# Altium integrated library Silicon Labs Energy Micro EFM32.IntLib: 240 symbols (part 23 of 34)
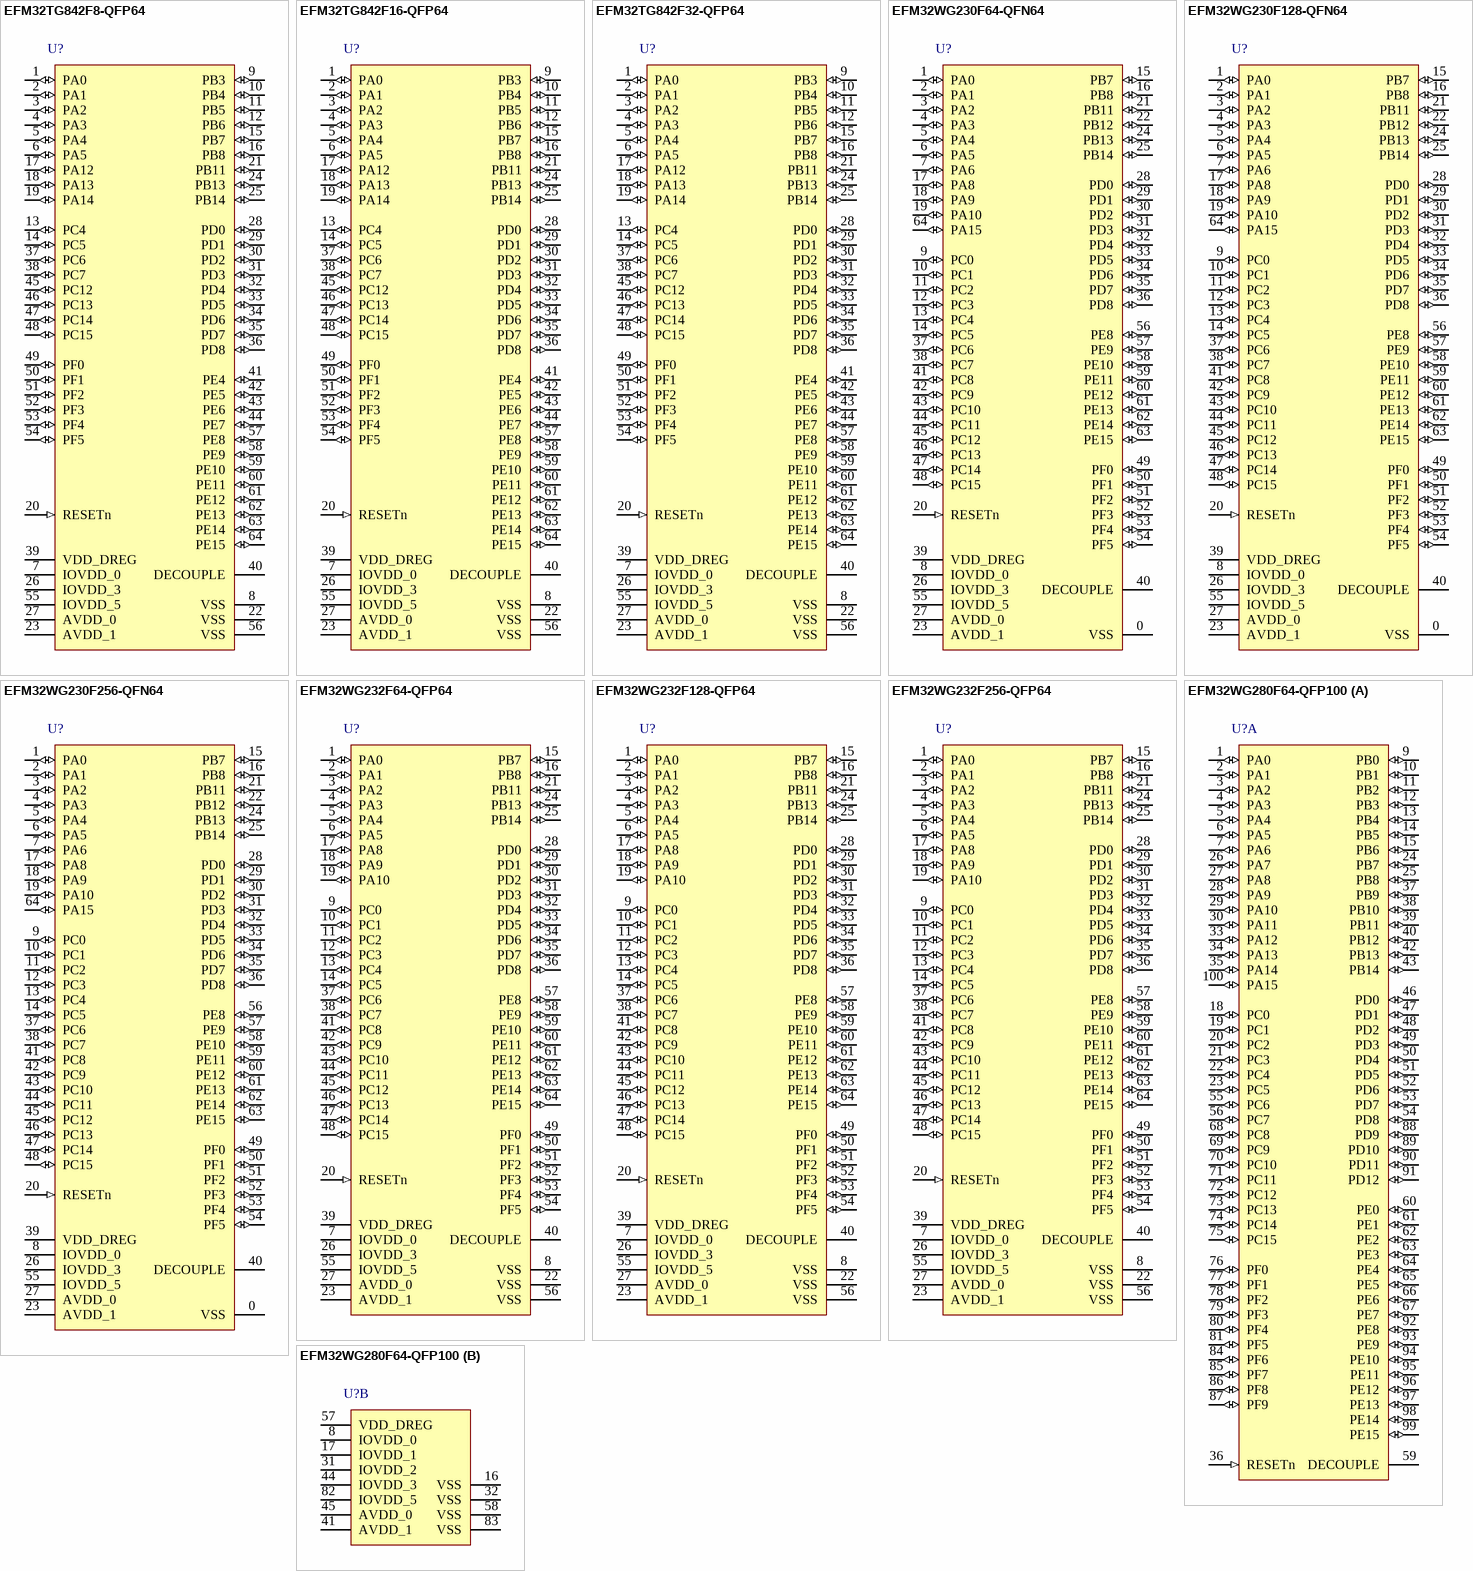
[diagram p60: symbols EFM32TG842F8-QFP64 to EFM32WG280F64-QFP100]

## EFM32TG842F8-QFP64
designator U?
EFM32 Tiny Gecko, M3 ARM Cortex CPU, 8 KB Flash, 2 KB RAM, 1.85 - 3.8 V Supply, 32 MHz Max Speed, -40 to 85 degC, 64-Pin TQFP, RoHS Compliant; Generic Part Number: EFM32TG842; PartNumber: EFM32TG842F8-QFP64; ADC: Y; Flash (KB): 8; GPIO: 53; LCD: 8x18; Max Speed (MHz): 32; OPAMPS: 3; RAM (KB): 2; DatasheetVersion: Rev 1.00; PackageVersion: Rev. 98SPP64023A_XO1_17MAR2011; PackageReference: TQFP64; PackageDescription: 64-Pin Quad Flat Package, Body 10 x 10 mm, Pitch 0.5 mm; Supplier 1: Digi-Key; Supplier Part Number 1: EFM32TG842F8-ND; Supplier 2: Mouser; Supplier Part Number 2: 904-EFM32TG842F8; AES: Y; ARM Cortex CPU: M3; LESENSE: Y; Subcategory: EFM32 Tiny Gecko; Supply Voltage (V): 1.85 - 3.8; Mounting Technology: Surface Mount; ComponentLink1Description: Manufacturer URL; ComponentLink1URL: http://www.energymicro.com/; ComponentLink2Description: Datasheet; ComponentLink2URL: http://cdn.energymicro.com/dl/devices/pdf/d0072_efm32tg842_datasheet.pdf; ComponentLink3Description: Package Specification; ComponentLink3URL: http://cdn.energymicro.com/dl/devices/pdf/d0070_efm32g842_datasheet.pdf
footprint ENMR-TQFP64_N (QFP, 64-Leads, Body 10x10mm, Pitch 0.5mm, IPC Medium Density)
footprint ENMR-TQFP64_L (QFP, 64-Leads, Body 10x10mm, Pitch 0.5mm, IPC High Density)
footprint ENMR-TQFP64_M (QFP, 64-Leads, Body 10x10mm, Pitch 0.5mm, IPC Low Density)
pins: 1 PA0 (io) "LCD_SEG13, TIM0_CC0#0/1/4, LEU0_RX#4, I2C0_SDA#0, PRS_CH0#0, GPIO_EM4WU0", 2 PA1 (io) "LCD_SEG14, TIM0_CC1#0/1, I2C0_SCL#0, CMU_CLK1#0, PRS_CH1#0", 3 PA2 (io) "LCD_SEG15, TIM0_CC2#0/1, CMU_CLK0#0", 4 PA3 (io) "LCD_SEG16, LES_ALTEX2#0", 5 PA4 (io) "LCD_SEG17, LES_ALTEX3#0", 6 PA5 (io) "LCD_SEG18, LES_ALTEX4#0", 7 IOVDD_0 (power) "Digital IO power supply 0.", 8 VSS (power) "Ground", 9 PB3 (io) "LCD_SEG20/LCD_COM4", 10 PB4 (io) "LCD_SEG21/LCD_COM5", 11 PB5 (io) "LCD_SEG22/LCD_COM6", 12 PB6 (io) "LCD_SEG23/LCD_COM7", 13 PC4 (io) "DAC0_P0#0/OPAMP_P0, ACMP0_CH4, LETIM0_OUT0#3, LES_CH4#0", 14 PC5 (io) "DAC0_N0#0/OPAMP_N0, ACMP0_CH5, LETIM0_OUT1#3, LES_CH5#0", 15 PB7 (io) "LFXTAL_P, TIM1_CC0#3, US0_TX#4, US1_CLK#0", 16 PB8 (io) "LFXTAL_N, TIM1_CC1#3, US0_RX#4, US1_CS#0", 17 PA12 (io) "LCD_BCAP_P", 18 PA13 (io) "LCD_BCAP_N", 19 PA14 (io) "LCD_BEXT", 20 RESETn (in) "Reset input. Active low, with internal pull-up.", 21 PB11 (io) "DAC0_OUT0#0/OPAMP_OUT0, TIM1_CC2#3, LETIM0_OUT0#1", 22 VSS (power) "Ground", 23 AVDD_1 (power) "Analog power supply 1 .", 24 PB13 (io) "HFXTAL_P, US0_CLK#4/5, LEU0_TX#1", 25 PB14 (io) "HFXTAL_N, US0_CS#4/5, LEU0_RX#1", 26 IOVDD_3 (power) "Digital IO power supply 3.", 27 AVDD_0 (power) "Analog power supply 0.", 28 PD0 (io) "ADC0_CH0, DAC0_OUT0ALT#4/OPAMP_OUT0ALT, DAC0_OUT2#1/OPAMP_OUT2, US1_TX#1", 29 PD1 (io) "ADC0_CH1, DAC0_OUT1ALT#4/OPAMP_OUT1ALT, TIM0_CC0#3, US1_RX#1", 30 PD2 (io) "ADC0_CH2, TIM0_CC1#3, US1_CLK#1", 31 PD3 (io) "ADC0_CH3, DAC0_N2#0/TIM0_CC2#3, US1_CS#1, OPAMP_N2", 32 PD4 (io) "ADC0_CH4, DAC0_P2#0/OPAMP_P2, LEU0_TX#0", 33 PD5 (io) "ADC0_CH5, DAC0_OUT2#0/OPAMP_OUT2, LEU0_RX#0", 34 PD6 (io) "ADC0_CH6, DAC0_P1#0/OPAMP_P1, TIM1_CC0#4, LETIM0_OUT0#0, PCNT0_S0IN#3, US1_RX#2, I2C0_SDA#1, LES_ALTEX0#0, ACMP0_O#2", 35 PD7 (io) "ADC0_CH7, DAC0_N1#0/OPAMP_N1, TIM1_CC1#4, LETIM0_OUT1#0, PCNT0_S1IN#3, US1_TX#2, I2C0_SCL#1, CMU_CLK0#2, LES_ALTEX1#0, ACMP1_O#2", 36 PD8 (io) "CMU_CLK1#1", 37 PC6 (io) "ACMP0_CH6, I2C0_SDA#2, LES_CH6#0", 38 PC7 (io) "ACMP0_CH7, I2C0_SCL#2, LES_CH7#0", 39 VDD_DREG (power) "Power supply for on-chip voltage regulator.", 40 DECOUPLE "Decouple output for on-chip voltage regulator, nominally at 1.8 V. An external capacitance of size CDECOUPLE is required at this pin.", 41 PE4 (io) "LCD_COM0, US0_CS#1", 42 PE5 (io) "LCD_COM1, US0_CLK#1", 43 PE6 (io) "LCD_COM2, US0_RX#1", 44 PE7 (io) "LCD_COM3, US0_TX#1", 45 PC12 (io) "DAC0_OUT1ALT#0/OPAMP_OUT1ALT, ACMP1_CH4, CMU_CLK0#1, LES_CH12#0", 46 PC13 (io) "DAC0_OUT1ALT#1/OPAMP_OUT1ALT, ACMP1_CH5, TIM1_CC0#0, TIM1_CC2#4, PCNT0_S0IN#0, LES_CH13#0", 47 PC14 (io) "DAC0_OUT1ALT#2/OPAMP_OUT1ALT, ACMP1_CH6, TIM1_CC1#0, PCNT0_S1IN#0, US0_CS#3, LES_CH14#0", 48 PC15 (io) "DAC0_OUT1ALT#3/OPAMP_OUT1ALT, ACMP1_CH7, TIM1_CC2#0, US0_CLK#3, LES_CH15#0, DBG_SWO#1", 49 PF0 (io) "TIM0_CC0#5, LETIM0_OUT0#2, US1_CLK#2, LEU0_TX#3, I2C0_SDA#5, DBG_SWCLK#0/1", 50 PF1 (io) "TIM0_CC1#5, LETIM0_OUT1#2, US1_CS#2, LEU0_RX#3, I2C0_SCL#5, DBG_SWDIO#0/1, GPIO_EM4WU3", 51 PF2 (io) "LCD_SEG0, TIM0_CC2#5, LEU0_TX#4, ACMP1_O#0, DBG_SWO#0, GPIO_EM4WU4", 52 PF3 (io) "LCD_SEG1, PRS_CH0#1", 53 PF4 (io) "LCD_SEG2, PRS_CH1#1", 54 PF5 (io) "LCD_SEG3, PRS_CH2#1", 55 IOVDD_5 (power) "Digital IO power supply 5.", 56 VSS (power) "Ground", 57 PE8 (io) "LCD_SEG4, PRS_CH3#1", 58 PE9 (io) "LCD_SEG5", 59 PE10 (io) "LCD_SEG6, TIM1_CC0#1, US0_TX#0", 60 PE11 (io) "LCD_SEG7, TIM1_CC1#1, US0_RX#0, LES_ALTEX5#0", 61 PE12 (io) "LCD_SEG8, TIM1_CC2#1, US0_RX#3, US0_CLK#0, I2C0_SDA#6, CMU_CLK1#2, LES_ALTEX6#0", 62 PE13 (io) "LCD_SEG9, US0_TX#3, US0_CS#0, I2C0_SCL#6, LES_ALTEX7#0, ACMP0_O#0, GPIO_EM4WU5", 63 PE14 (io) "LCD_SEG10, LEU0_TX#2", 64 PE15 (io) "LCD_SEG11, LEU0_RX#2"

## EFM32TG842F16-QFP64
designator U?
EFM32 Tiny Gecko, M3 ARM Cortex CPU, 16 KB Flash, 4 KB RAM, 1.85 - 3.8 V Supply, 32 MHz Max Speed, -40 to 85 degC, 64-Pin TQFP, RoHS Compliant; Generic Part Number: EFM32TG842; PartNumber: EFM32TG842F16-QFP64; ADC: Y; Flash (KB): 16; GPIO: 53; LCD: 8x18; Max Speed (MHz): 32; OPAMPS: 3; RAM (KB): 4; DatasheetVersion: Rev 1.00; PackageVersion: Rev. 98SPP64023A_XO1_17MAR2011; PackageReference: TQFP64; PackageDescription: 64-Pin Quad Flat Package, Body 10 x 10 mm, Pitch 0.5 mm; Supplier 1: Digi-Key; Supplier Part Number 1: EFM32TG842F16-ND; Supplier 2: Mouser; Supplier Part Number 2: 904-EFM32TG842F16; AES: Y; ARM Cortex CPU: M3; LESENSE: Y; Subcategory: EFM32 Tiny Gecko; Supply Voltage (V): 1.85 - 3.8; Mounting Technology: Surface Mount; ComponentLink1Description: Manufacturer URL; ComponentLink1URL: http://www.energymicro.com/; ComponentLink2Description: Datasheet; ComponentLink2URL: http://cdn.energymicro.com/dl/devices/pdf/d0072_efm32tg842_datasheet.pdf; ComponentLink3Description: Package Specification; ComponentLink3URL: http://cdn.energymicro.com/dl/devices/pdf/d0070_efm32g842_datasheet.pdf
footprint ENMR-TQFP64_N (QFP, 64-Leads, Body 10x10mm, Pitch 0.5mm, IPC Medium Density)
footprint ENMR-TQFP64_L (QFP, 64-Leads, Body 10x10mm, Pitch 0.5mm, IPC High Density)
footprint ENMR-TQFP64_M (QFP, 64-Leads, Body 10x10mm, Pitch 0.5mm, IPC Low Density)
pins: 1 PA0 (io) "LCD_SEG13, TIM0_CC0#0/1/4, LEU0_RX#4, I2C0_SDA#0, PRS_CH0#0, GPIO_EM4WU0", 2 PA1 (io) "LCD_SEG14, TIM0_CC1#0/1, I2C0_SCL#0, CMU_CLK1#0, PRS_CH1#0", 3 PA2 (io) "LCD_SEG15, TIM0_CC2#0/1, CMU_CLK0#0", 4 PA3 (io) "LCD_SEG16, LES_ALTEX2#0", 5 PA4 (io) "LCD_SEG17, LES_ALTEX3#0", 6 PA5 (io) "LCD_SEG18, LES_ALTEX4#0", 7 IOVDD_0 (power) "Digital IO power supply 0.", 8 VSS (power) "Ground", 9 PB3 (io) "LCD_SEG20/LCD_COM4", 10 PB4 (io) "LCD_SEG21/LCD_COM5", 11 PB5 (io) "LCD_SEG22/LCD_COM6", 12 PB6 (io) "LCD_SEG23/LCD_COM7", 13 PC4 (io) "DAC0_P0#0/OPAMP_P0, ACMP0_CH4, LETIM0_OUT0#3, LES_CH4#0", 14 PC5 (io) "DAC0_N0#0/OPAMP_N0, ACMP0_CH5, LETIM0_OUT1#3, LES_CH5#0", 15 PB7 (io) "LFXTAL_P, TIM1_CC0#3, US0_TX#4, US1_CLK#0", 16 PB8 (io) "LFXTAL_N, TIM1_CC1#3, US0_RX#4, US1_CS#0", 17 PA12 (io) "LCD_BCAP_P", 18 PA13 (io) "LCD_BCAP_N", 19 PA14 (io) "LCD_BEXT", 20 RESETn (in) "Reset input. Active low, with internal pull-up.", 21 PB11 (io) "DAC0_OUT0#0/OPAMP_OUT0, TIM1_CC2#3, LETIM0_OUT0#1", 22 VSS (power) "Ground", 23 AVDD_1 (power) "Analog power supply 1 .", 24 PB13 (io) "HFXTAL_P, US0_CLK#4/5, LEU0_TX#1", 25 PB14 (io) "HFXTAL_N, US0_CS#4/5, LEU0_RX#1", 26 IOVDD_3 (power) "Digital IO power supply 3.", 27 AVDD_0 (power) "Analog power supply 0.", 28 PD0 (io) "ADC0_CH0, DAC0_OUT0ALT#4/OPAMP_OUT0ALT, DAC0_OUT2#1/OPAMP_OUT2, US1_TX#1", 29 PD1 (io) "ADC0_CH1, DAC0_OUT1ALT#4/OPAMP_OUT1ALT, TIM0_CC0#3, US1_RX#1", 30 PD2 (io) "ADC0_CH2, TIM0_CC1#3, US1_CLK#1", 31 PD3 (io) "ADC0_CH3, DAC0_N2#0/TIM0_CC2#3, US1_CS#1, OPAMP_N2", 32 PD4 (io) "ADC0_CH4, DAC0_P2#0/OPAMP_P2, LEU0_TX#0", 33 PD5 (io) "ADC0_CH5, DAC0_OUT2#0/OPAMP_OUT2, LEU0_RX#0", 34 PD6 (io) "ADC0_CH6, DAC0_P1#0/OPAMP_P1, TIM1_CC0#4, LETIM0_OUT0#0, PCNT0_S0IN#3, US1_RX#2, I2C0_SDA#1, LES_ALTEX0#0, ACMP0_O#2", 35 PD7 (io) "ADC0_CH7, DAC0_N1#0/OPAMP_N1, TIM1_CC1#4, LETIM0_OUT1#0, PCNT0_S1IN#3, US1_TX#2, I2C0_SCL#1, CMU_CLK0#2, LES_ALTEX1#0, ACMP1_O#2", 36 PD8 (io) "CMU_CLK1#1", 37 PC6 (io) "ACMP0_CH6, I2C0_SDA#2, LES_CH6#0", 38 PC7 (io) "ACMP0_CH7, I2C0_SCL#2, LES_CH7#0", 39 VDD_DREG (power) "Power supply for on-chip voltage regulator.", 40 DECOUPLE "Decouple output for on-chip voltage regulator, nominally at 1.8 V. An external capacitance of size CDECOUPLE is required at this pin.", 41 PE4 (io) "LCD_COM0, US0_CS#1", 42 PE5 (io) "LCD_COM1, US0_CLK#1", 43 PE6 (io) "LCD_COM2, US0_RX#1", 44 PE7 (io) "LCD_COM3, US0_TX#1", 45 PC12 (io) "DAC0_OUT1ALT#0/OPAMP_OUT1ALT, ACMP1_CH4, CMU_CLK0#1, LES_CH12#0", 46 PC13 (io) "DAC0_OUT1ALT#1/OPAMP_OUT1ALT, ACMP1_CH5, TIM1_CC0#0, TIM1_CC2#4, PCNT0_S0IN#0, LES_CH13#0", 47 PC14 (io) "DAC0_OUT1ALT#2/OPAMP_OUT1ALT, ACMP1_CH6, TIM1_CC1#0, PCNT0_S1IN#0, US0_CS#3, LES_CH14#0", 48 PC15 (io) "DAC0_OUT1ALT#3/OPAMP_OUT1ALT, ACMP1_CH7, TIM1_CC2#0, US0_CLK#3, LES_CH15#0, DBG_SWO#1", 49 PF0 (io) "TIM0_CC0#5, LETIM0_OUT0#2, US1_CLK#2, LEU0_TX#3, I2C0_SDA#5, DBG_SWCLK#0/1", 50 PF1 (io) "TIM0_CC1#5, LETIM0_OUT1#2, US1_CS#2, LEU0_RX#3, I2C0_SCL#5, DBG_SWDIO#0/1, GPIO_EM4WU3", 51 PF2 (io) "LCD_SEG0, TIM0_CC2#5, LEU0_TX#4, ACMP1_O#0, DBG_SWO#0, GPIO_EM4WU4", 52 PF3 (io) "LCD_SEG1, PRS_CH0#1", 53 PF4 (io) "LCD_SEG2, PRS_CH1#1", 54 PF5 (io) "LCD_SEG3, PRS_CH2#1", 55 IOVDD_5 (power) "Digital IO power supply 5.", 56 VSS (power) "Ground", 57 PE8 (io) "LCD_SEG4, PRS_CH3#1", 58 PE9 (io) "LCD_SEG5", 59 PE10 (io) "LCD_SEG6, TIM1_CC0#1, US0_TX#0", 60 PE11 (io) "LCD_SEG7, TIM1_CC1#1, US0_RX#0, LES_ALTEX5#0", 61 PE12 (io) "LCD_SEG8, TIM1_CC2#1, US0_RX#3, US0_CLK#0, I2C0_SDA#6, CMU_CLK1#2, LES_ALTEX6#0", 62 PE13 (io) "LCD_SEG9, US0_TX#3, US0_CS#0, I2C0_SCL#6, LES_ALTEX7#0, ACMP0_O#0, GPIO_EM4WU5", 63 PE14 (io) "LCD_SEG10, LEU0_TX#2", 64 PE15 (io) "LCD_SEG11, LEU0_RX#2"

## EFM32TG842F32-QFP64
designator U?
EFM32 Tiny Gecko, M3 ARM Cortex CPU, 32 KB Flash, 4 KB RAM, 1.85 - 3.8 V Supply, 32 MHz Max Speed, -40 to 85 degC, 64-Pin TQFP, RoHS Compliant; Generic Part Number: EFM32TG842; PartNumber: EFM32TG842F32-QFP64; ADC: Y; Flash (KB): 32; GPIO: 53; LCD: 8x18; OPAMPS: 3; RAM (KB): 4; DatasheetVersion: Rev 1.00; PackageVersion: Rev. 98SPP64023A_XO1_17MAR2011; PackageReference: TQFP64; PackageDescription: 64-Pin Quad Flat Package, Body 10 x 10 mm, Pitch 0.5 mm; Supplier 1: Digi-Key; Supplier Part Number 1: 914-1037-2-ND; Supplier 2: Digi-Key; Supplier Part Number 2: 914-1037-1-ND; Supplier 3: Digi-Key; Supplier Part Number 3: 914-1037-6-ND; Supplier 4: Mouser; Supplier Part Number 4: 904-EFM32TG842F32; AES: Y; ARM Cortex CPU: M3; LESENSE: Y; Max Speed (MHz): 32; Subcategory: EFM32 Tiny Gecko; Supply Voltage (V): 1.85 - 3.8; Mounting Technology: Surface Mount; ComponentLink1Description: Manufacturer URL; ComponentLink1URL: http://www.energymicro.com/; ComponentLink2Description: Datasheet; ComponentLink2URL: http://cdn.energymicro.com/dl/devices/pdf/d0072_efm32tg842_datasheet.pdf; ComponentLink3Description: Package Specification; ComponentLink3URL: http://cdn.energymicro.com/dl/devices/pdf/d0070_efm32g842_datasheet.pdf
footprint ENMR-TQFP64_N (QFP, 64-Leads, Body 10x10mm, Pitch 0.5mm, IPC Medium Density)
footprint ENMR-TQFP64_L (QFP, 64-Leads, Body 10x10mm, Pitch 0.5mm, IPC High Density)
footprint ENMR-TQFP64_M (QFP, 64-Leads, Body 10x10mm, Pitch 0.5mm, IPC Low Density)
pins: 1 PA0 (io) "LCD_SEG13, TIM0_CC0#0/1/4, LEU0_RX#4, I2C0_SDA#0, PRS_CH0#0, GPIO_EM4WU0", 2 PA1 (io) "LCD_SEG14, TIM0_CC1#0/1, I2C0_SCL#0, CMU_CLK1#0, PRS_CH1#0", 3 PA2 (io) "LCD_SEG15, TIM0_CC2#0/1, CMU_CLK0#0", 4 PA3 (io) "LCD_SEG16, LES_ALTEX2#0", 5 PA4 (io) "LCD_SEG17, LES_ALTEX3#0", 6 PA5 (io) "LCD_SEG18, LES_ALTEX4#0", 7 IOVDD_0 (power) "Digital IO power supply 0.", 8 VSS (power) "Ground", 9 PB3 (io) "LCD_SEG20/LCD_COM4", 10 PB4 (io) "LCD_SEG21/LCD_COM5", 11 PB5 (io) "LCD_SEG22/LCD_COM6", 12 PB6 (io) "LCD_SEG23/LCD_COM7", 13 PC4 (io) "DAC0_P0#0/OPAMP_P0, ACMP0_CH4, LETIM0_OUT0#3, LES_CH4#0", 14 PC5 (io) "DAC0_N0#0/OPAMP_N0, ACMP0_CH5, LETIM0_OUT1#3, LES_CH5#0", 15 PB7 (io) "LFXTAL_P, TIM1_CC0#3, US0_TX#4, US1_CLK#0", 16 PB8 (io) "LFXTAL_N, TIM1_CC1#3, US0_RX#4, US1_CS#0", 17 PA12 (io) "LCD_BCAP_P", 18 PA13 (io) "LCD_BCAP_N", 19 PA14 (io) "LCD_BEXT", 20 RESETn (in) "Reset input. Active low, with internal pull-up.", 21 PB11 (io) "DAC0_OUT0#0/OPAMP_OUT0, TIM1_CC2#3, LETIM0_OUT0#1", 22 VSS (power) "Ground", 23 AVDD_1 (power) "Analog power supply 1 .", 24 PB13 (io) "HFXTAL_P, US0_CLK#4/5, LEU0_TX#1", 25 PB14 (io) "HFXTAL_N, US0_CS#4/5, LEU0_RX#1", 26 IOVDD_3 (power) "Digital IO power supply 3.", 27 AVDD_0 (power) "Analog power supply 0.", 28 PD0 (io) "ADC0_CH0, DAC0_OUT0ALT#4/OPAMP_OUT0ALT, DAC0_OUT2#1/OPAMP_OUT2, US1_TX#1", 29 PD1 (io) "ADC0_CH1, DAC0_OUT1ALT#4/OPAMP_OUT1ALT, TIM0_CC0#3, US1_RX#1", 30 PD2 (io) "ADC0_CH2, TIM0_CC1#3, US1_CLK#1", 31 PD3 (io) "ADC0_CH3, DAC0_N2#0/TIM0_CC2#3, US1_CS#1, OPAMP_N2", 32 PD4 (io) "ADC0_CH4, DAC0_P2#0/OPAMP_P2, LEU0_TX#0", 33 PD5 (io) "ADC0_CH5, DAC0_OUT2#0/OPAMP_OUT2, LEU0_RX#0", 34 PD6 (io) "ADC0_CH6, DAC0_P1#0/OPAMP_P1, TIM1_CC0#4, LETIM0_OUT0#0, PCNT0_S0IN#3, US1_RX#2, I2C0_SDA#1, LES_ALTEX0#0, ACMP0_O#2", 35 PD7 (io) "ADC0_CH7, DAC0_N1#0/OPAMP_N1, TIM1_CC1#4, LETIM0_OUT1#0, PCNT0_S1IN#3, US1_TX#2, I2C0_SCL#1, CMU_CLK0#2, LES_ALTEX1#0, ACMP1_O#2", 36 PD8 (io) "CMU_CLK1#1", 37 PC6 (io) "ACMP0_CH6, I2C0_SDA#2, LES_CH6#0", 38 PC7 (io) "ACMP0_CH7, I2C0_SCL#2, LES_CH7#0", 39 VDD_DREG (power) "Power supply for on-chip voltage regulator.", 40 DECOUPLE "Decouple output for on-chip voltage regulator, nominally at 1.8 V. An external capacitance of size CDECOUPLE is required at this pin.", 41 PE4 (io) "LCD_COM0, US0_CS#1", 42 PE5 (io) "LCD_COM1, US0_CLK#1", 43 PE6 (io) "LCD_COM2, US0_RX#1", 44 PE7 (io) "LCD_COM3, US0_TX#1", 45 PC12 (io) "DAC0_OUT1ALT#0/OPAMP_OUT1ALT, ACMP1_CH4, CMU_CLK0#1, LES_CH12#0", 46 PC13 (io) "DAC0_OUT1ALT#1/OPAMP_OUT1ALT, ACMP1_CH5, TIM1_CC0#0, TIM1_CC2#4, PCNT0_S0IN#0, LES_CH13#0", 47 PC14 (io) "DAC0_OUT1ALT#2/OPAMP_OUT1ALT, ACMP1_CH6, TIM1_CC1#0, PCNT0_S1IN#0, US0_CS#3, LES_CH14#0", 48 PC15 (io) "DAC0_OUT1ALT#3/OPAMP_OUT1ALT, ACMP1_CH7, TIM1_CC2#0, US0_CLK#3, LES_CH15#0, DBG_SWO#1", 49 PF0 (io) "TIM0_CC0#5, LETIM0_OUT0#2, US1_CLK#2, LEU0_TX#3, I2C0_SDA#5, DBG_SWCLK#0/1", 50 PF1 (io) "TIM0_CC1#5, LETIM0_OUT1#2, US1_CS#2, LEU0_RX#3, I2C0_SCL#5, DBG_SWDIO#0/1, GPIO_EM4WU3", 51 PF2 (io) "LCD_SEG0, TIM0_CC2#5, LEU0_TX#4, ACMP1_O#0, DBG_SWO#0, GPIO_EM4WU4", 52 PF3 (io) "LCD_SEG1, PRS_CH0#1", 53 PF4 (io) "LCD_SEG2, PRS_CH1#1", 54 PF5 (io) "LCD_SEG3, PRS_CH2#1", 55 IOVDD_5 (power) "Digital IO power supply 5.", 56 VSS (power) "Ground", 57 PE8 (io) "LCD_SEG4, PRS_CH3#1", 58 PE9 (io) "LCD_SEG5", 59 PE10 (io) "LCD_SEG6, TIM1_CC0#1, US0_TX#0", 60 PE11 (io) "LCD_SEG7, TIM1_CC1#1, US0_RX#0, LES_ALTEX5#0", 61 PE12 (io) "LCD_SEG8, TIM1_CC2#1, US0_RX#3, US0_CLK#0, I2C0_SDA#6, CMU_CLK1#2, LES_ALTEX6#0", 62 PE13 (io) "LCD_SEG9, US0_TX#3, US0_CS#0, I2C0_SCL#6, LES_ALTEX7#0, ACMP0_O#0, GPIO_EM4WU5", 63 PE14 (io) "LCD_SEG10, LEU0_TX#2", 64 PE15 (io) "LCD_SEG11, LEU0_RX#2"

## EFM32WG230F64-QFN64
designator U?
EFM32 Wonder Gecko, M4F ARM Cortex CPU, 64 KB Flash, 32 KB RAM, 1.85 - 3.8 V Supply, 48 MHz Max Speed, -40 to 85 degC, 64-Pin QFN, RoHS Compliant; Generic Part Number: EFM32WG230; PartNumber: EFM32WG230F64-QFN64; Flash (KB): 64; GPIO: 56; LESENSE: Y; Max Speed (MHz): 48; OPAMPS: 3; RAM (KB): 32; DatasheetVersion: Rev 1.00; PackageVersion: Rev. 98SPP64048A_XO1_08MAR2011; PackageReference: QFN64; PackageDescription: 64-Pin Quad Flat No-Lead, Body 9 x 9 mm, Pitch 0.5 mm; Supplier 1: Digi-Key; Supplier Part Number 1: EFM32WG230F64-ND; Supplier 2: Mouser; Supplier Part Number 2: 904-EFM32WG230F64; ARM Cortex CPU: M4F; Subcategory: EFM32 Wonder Gecko; Supply Voltage (V): 1.85 - 3.8; Mounting Technology: Surface Mount; ComponentLink1Description: Manufacturer URL; ComponentLink1URL: http://www.energymicro.com/; ComponentLink2Description: Datasheet; ComponentLink2URL: http://cdn.energymicro.com/dl/devices/pdf/d0185_efm32wg230_datasheet.pdf; ComponentLink3Description: Package Specification; ComponentLink3URL: http://cdn.energymicro.com/dl/devices/pdf/d0005_efm32g230_datasheet.pdf
footprint ENMR-QFN64_N (QFN, 64-Leads, Body 9x9mm, Pitch 0.5mm, IPC Medium Density)
footprint ENMR-QFN64_L (QFN, 64-Leads, Body 9x9mm, Pitch 0.5mm, IPC High Density)
footprint ENMR-QFN64_M (QFN, 64-Leads, Body 9x9mm, Pitch 0.5mm, IPC Low Density)
pins: 0 VSS (power) "Ground", 1 PA0 (io) "TIM0_CC0#0/1/4, LEU0_RX#4, I2C0_SDA#0, PRS_CH0#0, GPIO_EM4WU0", 2 PA1 (io) "TIM0_CC1#0/1, I2C0_SCL#0, CMU_CLK1#0, PRS_CH1#0", 3 PA2 (io) "TIM0_CC2#0/1, CMU_CLK0#0, ETM_TD0#3", 4 PA3 (io) "TIM0_CDTI0#0, LES_ALTEX2#0, ETM_TD1#3", 5 PA4 (io) "TIM0_CDTI1#0, LES_ALTEX3#0, ETM_TD2#3", 6 PA5 (io) "TIM0_CDTI2#0, LEU1_TX#1, LES_ALTEX4#0, ETM_TD3#3", 7 PA6 (io) "LEU1_RX#1, ETM_TCLK#3, GPIO_EM4WU1", 8 IOVDD_0 (power) "Digital IO power supply 0.", 9 PC0 (io) "DAC0_OUT0ALT#0/OPAMP_OUT0ALT, ACMP0_CH0, TIM0_CC1#4, PCNT0_S0IN#2, US0_TX#5, US1_TX#0, I2C0_SDA#4, LES_CH0#0, PRS_CH2#0", 10 PC1 (io) "DAC0_OUT0ALT#1/OPAMP_OUT0ALT, ACMP0_CH1, TIM0_CC2#4, PCNT0_S1IN#2, US0_RX#5, US1_RX#0, I2C0_SCL#4, LES_CH1#0, PRS_CH3#0", 11 PC2 (io) "DAC0_OUT0ALT#2/OPAMP_OUT0ALT, ACMP0_CH2, TIM0_CDTI0#4, US2_TX#0, LES_CH2#0", 12 PC3 (io) "DAC0_OUT0ALT#3/OPAMP_OUT0ALT, ACMP0_CH3, TIM0_CDTI1#4, US2_RX#0, LES_CH3#0", 13 PC4 (io) "DAC0_P0#0/OPAMP_P0, ACMP0_CH4, TIM0_CDTI2#4, LETIM0_OUT0#3, PCNT1_S0IN#0, US2_CLK#0, I2C1_SDA#0, LES_CH4#0", 14 PC5 (io) "DAC0_N0#0/OPAMP_N0, ACMP0_CH5, LETIM0_OUT1#3, PCNT1_S1IN#0, US2_CS#0, I2C1_SCL#0, LES_CH5#0", 15 PB7 (io) "LFXTAL_P, TIM1_CC0#3, US0_TX#4, US1_CLK#0", 16 PB8 (io) "LFXTAL_N, TIM1_CC1#3, US0_RX#4, US1_CS#0", 17 PA8 (io) "TIM2_CC0#0", 18 PA9 (io) "TIM2_CC1#0", 19 PA10 (io) "TIM2_CC2#0", 20 RESETn (in) "Reset input. Active low, with internal pull-up.", 21 PB11 (io) "DAC0_OUT0#0/OPAMP_OUT0, TIM1_CC2#3, LETIM0_OUT0#1, I2C1_SDA#1", 22 PB12 (io) "DAC0_OUT1#0/OPAMP_OUT1, LETIM0_OUT1#1, I2C1_SCL#1", 23 AVDD_1 (power) "Analog power supply 1.", 24 PB13 (io) "HFXTAL_P, US0_CLK#4/5, LEU0_TX#1", 25 PB14 (io) "HFXTAL_N, US0_CS#4/5, LEU0_RX#1", 26 IOVDD_3 (power) "Digital IO power supply 3.", 27 AVDD_0 (power) "Analog power supply 0.", 28 PD0 (io) "ADC0_CH0, DAC0_OUT0ALT#4/OPAMP_OUT0ALT, DAC0_OUT2#1/OPAMP_OUT2, PCNT2_S0IN#0, US1_TX#1", 29 PD1 (io) "ADC0_CH1, DAC0_OUT1ALT#4/OPAMP_OUT1ALT, TIM0_CC0#3, PCNT2_S1IN#0, US1_RX#1, DBG_SWO#2", 30 PD2 (io) "ADC0_CH2, TIM0_CC1#3, US1_CLK#1, DBG_SWO#3", 31 PD3 (io) "ADC0_CH3, DAC0_N2#0/OPAMP_N2, TIM0_CC2#3, US1_CS#1, ETM_TD1#0/2", 32 PD4 (io) "ADC0_CH4, DAC0_P2#0/OPAMP_P2, LEU0_TX#0, ETM_TD2#0/2", 33 PD5 (io) "ADC0_CH5, DAC0_OUT2#0/OPAMP_OUT2, LEU0_RX#0, ETM_TD3#0/2", 34 PD6 (io) "ADC0_CH6, DAC0_P1#0/OPAMP_P1, TIM1_CC0#4, LETIM0_OUT0#0, PCNT0_S0IN#3, US1_RX#2, I2C0_SDA#1, LES_ALTEX0#0, ACMP0_O#2, ETM_TD0#0", 35 PD7 (io) "ADC0_CH7, DAC0_N1#0/OPAMP_N1, TIM1_CC1#4, LETIM0_OUT1#0, PCNT0_S1IN#3, US1_TX#2, I2C0_SCL#1, CMU_CLK0#2, LES_ALTEX1#0, ACMP1_O#2, ETM_TCLK#0", 36 PD8 (io) "BU_VIN, CMU_CLK1#1", 37 PC6 (io) "ACMP0_CH6, LEU1_TX#0, I2C0_SDA#2, LES_CH6#0, ETM_TCLK#2", 38 PC7 (io) "ACMP0_CH7, LEU1_RX#0, I2C0_SCL#2, LES_CH7#0, ETM_TD0#2", 39 VDD_DREG (power) "Power supply for on-chip voltage regulator.", 40 DECOUPLE "Decouple output for on-chip voltage regulator. An external capacitance of size CDECOUPLE is required at this pin.", 41 PC8 (io) "ACMP1_CH0, TIM2_CC0#2, US0_CS#2, LES_CH8#0", 42 PC9 (io) "ACMP1_CH1, TIM2_CC1#2, US0_CLK#2, LES_CH9#0, GPIO_EM4WU2", 43 PC10 (io) "ACMP1_CH2, TIM2_CC2#2, US0_RX#2, LES_CH10#0", 44 PC11 (io) "ACMP1_CH3, US0_TX#2, LES_CH11#0", 45 PC12 (io) "DAC0_OUT1ALT#0/OPAMP_OUT1ALT, ACMP1_CH4, CMU_CLK0#1, LES_CH12#0", 46 PC13 (io) "DAC0_OUT1ALT#1/OPAMP_OUT1ALT, ACMP1_CH5, TIM0_CDTI0#1/3, TIM1_CC0#0, TIM1_CC2#4, PCNT0_S0IN#0, LES_CH13#0", 47 PC14 (io) "DAC0_OUT1ALT#2/OPAMP_OUT1ALT, ACMP1_CH6, TIM0_CDTI1#1/3, TIM1_CC1#0, PCNT0_S1IN#0, US0_CS#3, LES_CH14#0", 48 PC15 (io) "DAC0_OUT1ALT#3/OPAMP_OUT1ALT, ACMP1_CH7, TIM0_CDTI2#1/3, TIM1_CC2#0, US0_CLK#3, LES_CH15#0, DBG_SWO#1", 49 PF0 (io) "TIM0_CC0#5, LETIM0_OUT0#2, US1_CLK#2, LEU0_TX#3, I2C0_SDA#5, DBG_SWCLK#0/1/2/3", 50 PF1 (io) "TIM0_CC1#5, LETIM0_OUT1#2, US1_CS#2, LEU0_RX#3, I2C0_SCL#5, DBG_SWDIO#0/1/2/3, GPIO_EM4WU3", 51 PF2 (io) "TIM0_CC2#5, LEU0_TX#4, ACMP1_O#0, DBG_SWO#0, GPIO_EM4WU4", 52 PF3 (io) "TIM0_CDTI0#2/5, PRS_CH0#1, ETM_TD3#1", 53 PF4 (io) "TIM0_CDTI1#2/5, PRS_CH1#1", 54 PF5 (io) "TIM0_CDTI2#2/5, PRS_CH2#1", 55 IOVDD_5 (power) "Digital IO power supply 5.", 56 PE8 (io) "PCNT2_S0IN#1, PRS_CH3#1", 57 PE9 (io) "PCNT2_S1IN#1", 58 PE10 (io) "TIM1_CC0#1, US0_TX#0, BOOTLOADER_TX", 59 PE11 (io) "TIM1_CC1#1, US0_RX#0, LES_ALTEX5#0, BOOTLOADER_RX", 60 PE12 (io) "TIM1_CC2#1, US0_RX#3, US0_CLK#0, I2C0_SDA#6, CMU_CLK1#2, LES_ALTEX6#0", 61 PE13 (io) "US0_TX#3, US0_CS#0, I2C0_SCL#6, LES_ALTEX7#0, ACMP0_O#0, GPIO_EM4WU5", 62 PE14 (io) "TIM3_CC0#0, LEU0_TX#2", 63 PE15 (io) "TIM3_CC1#0, LEU0_RX#2", 64 PA15 (io) "TIM3_CC2#0"

## EFM32WG230F128-QFN64
designator U?
EFM32 Wonder Gecko, M4F ARM Cortex CPU, 128 KB Flash, 32 KB RAM, 1.85 - 3.8 V Supply, 48 MHz Max Speed, -40 to 85 degC, 64-Pin QFN, RoHS Compliant; Generic Part Number: EFM32WG230; PartNumber: EFM32WG230F128-QFN64; Flash (KB): 128; GPIO: 56; LESENSE: Y; Max Speed (MHz): 48; OPAMPS: 3; RAM (KB): 32; DatasheetVersion: Rev 1.00; PackageVersion: Rev. 98SPP64048A_XO1_08MAR2011; PackageReference: QFN64; PackageDescription: 64-Pin Quad Flat No-Lead, Body 9 x 9 mm, Pitch 0.5 mm; Supplier 1: Digi-Key; Supplier Part Number 1: EFM32WG230F128-ND; Supplier 2: Mouser; Supplier Part Number 2: 904-EFM32WG230F128; ARM Cortex CPU: M4F; Subcategory: EFM32 Wonder Gecko; Supply Voltage (V): 1.85 - 3.8; Mounting Technology: Surface Mount; ComponentLink1Description: Manufacturer URL; ComponentLink1URL: http://www.energymicro.com/; ComponentLink2Description: Datasheet; ComponentLink2URL: http://cdn.energymicro.com/dl/devices/pdf/d0185_efm32wg230_datasheet.pdf; ComponentLink3Description: Package Specification; ComponentLink3URL: http://cdn.energymicro.com/dl/devices/pdf/d0005_efm32g230_datasheet.pdf
footprint ENMR-QFN64_N (QFN, 64-Leads, Body 9x9mm, Pitch 0.5mm, IPC Medium Density)
footprint ENMR-QFN64_L (QFN, 64-Leads, Body 9x9mm, Pitch 0.5mm, IPC High Density)
footprint ENMR-QFN64_M (QFN, 64-Leads, Body 9x9mm, Pitch 0.5mm, IPC Low Density)
pins: 0 VSS (power) "Ground", 1 PA0 (io) "TIM0_CC0#0/1/4, LEU0_RX#4, I2C0_SDA#0, PRS_CH0#0, GPIO_EM4WU0", 2 PA1 (io) "TIM0_CC1#0/1, I2C0_SCL#0, CMU_CLK1#0, PRS_CH1#0", 3 PA2 (io) "TIM0_CC2#0/1, CMU_CLK0#0, ETM_TD0#3", 4 PA3 (io) "TIM0_CDTI0#0, LES_ALTEX2#0, ETM_TD1#3", 5 PA4 (io) "TIM0_CDTI1#0, LES_ALTEX3#0, ETM_TD2#3", 6 PA5 (io) "TIM0_CDTI2#0, LEU1_TX#1, LES_ALTEX4#0, ETM_TD3#3", 7 PA6 (io) "LEU1_RX#1, ETM_TCLK#3, GPIO_EM4WU1", 8 IOVDD_0 (power) "Digital IO power supply 0.", 9 PC0 (io) "DAC0_OUT0ALT#0/OPAMP_OUT0ALT, ACMP0_CH0, TIM0_CC1#4, PCNT0_S0IN#2, US0_TX#5, US1_TX#0, I2C0_SDA#4, LES_CH0#0, PRS_CH2#0", 10 PC1 (io) "DAC0_OUT0ALT#1/OPAMP_OUT0ALT, ACMP0_CH1, TIM0_CC2#4, PCNT0_S1IN#2, US0_RX#5, US1_RX#0, I2C0_SCL#4, LES_CH1#0, PRS_CH3#0", 11 PC2 (io) "DAC0_OUT0ALT#2/OPAMP_OUT0ALT, ACMP0_CH2, TIM0_CDTI0#4, US2_TX#0, LES_CH2#0", 12 PC3 (io) "DAC0_OUT0ALT#3/OPAMP_OUT0ALT, ACMP0_CH3, TIM0_CDTI1#4, US2_RX#0, LES_CH3#0", 13 PC4 (io) "DAC0_P0#0/OPAMP_P0, ACMP0_CH4, TIM0_CDTI2#4, LETIM0_OUT0#3, PCNT1_S0IN#0, US2_CLK#0, I2C1_SDA#0, LES_CH4#0", 14 PC5 (io) "DAC0_N0#0/OPAMP_N0, ACMP0_CH5, LETIM0_OUT1#3, PCNT1_S1IN#0, US2_CS#0, I2C1_SCL#0, LES_CH5#0", 15 PB7 (io) "LFXTAL_P, TIM1_CC0#3, US0_TX#4, US1_CLK#0", 16 PB8 (io) "LFXTAL_N, TIM1_CC1#3, US0_RX#4, US1_CS#0", 17 PA8 (io) "TIM2_CC0#0", 18 PA9 (io) "TIM2_CC1#0", 19 PA10 (io) "TIM2_CC2#0", 20 RESETn (in) "Reset input. Active low, with internal pull-up.", 21 PB11 (io) "DAC0_OUT0#0/OPAMP_OUT0, TIM1_CC2#3, LETIM0_OUT0#1, I2C1_SDA#1", 22 PB12 (io) "DAC0_OUT1#0/OPAMP_OUT1, LETIM0_OUT1#1, I2C1_SCL#1", 23 AVDD_1 (power) "Analog power supply 1.", 24 PB13 (io) "HFXTAL_P, US0_CLK#4/5, LEU0_TX#1", 25 PB14 (io) "HFXTAL_N, US0_CS#4/5, LEU0_RX#1", 26 IOVDD_3 (power) "Digital IO power supply 3.", 27 AVDD_0 (power) "Analog power supply 0.", 28 PD0 (io) "ADC0_CH0, DAC0_OUT0ALT#4/OPAMP_OUT0ALT, DAC0_OUT2#1/OPAMP_OUT2, PCNT2_S0IN#0, US1_TX#1", 29 PD1 (io) "ADC0_CH1, DAC0_OUT1ALT#4/OPAMP_OUT1ALT, TIM0_CC0#3, PCNT2_S1IN#0, US1_RX#1, DBG_SWO#2", 30 PD2 (io) "ADC0_CH2, TIM0_CC1#3, US1_CLK#1, DBG_SWO#3", 31 PD3 (io) "ADC0_CH3, DAC0_N2#0/OPAMP_N2, TIM0_CC2#3, US1_CS#1, ETM_TD1#0/2", 32 PD4 (io) "ADC0_CH4, DAC0_P2#0/OPAMP_P2, LEU0_TX#0, ETM_TD2#0/2", 33 PD5 (io) "ADC0_CH5, DAC0_OUT2#0/OPAMP_OUT2, LEU0_RX#0, ETM_TD3#0/2", 34 PD6 (io) "ADC0_CH6, DAC0_P1#0/OPAMP_P1, TIM1_CC0#4, LETIM0_OUT0#0, PCNT0_S0IN#3, US1_RX#2, I2C0_SDA#1, LES_ALTEX0#0, ACMP0_O#2, ETM_TD0#0", 35 PD7 (io) "ADC0_CH7, DAC0_N1#0/OPAMP_N1, TIM1_CC1#4, LETIM0_OUT1#0, PCNT0_S1IN#3, US1_TX#2, I2C0_SCL#1, CMU_CLK0#2, LES_ALTEX1#0, ACMP1_O#2, ETM_TCLK#0", 36 PD8 (io) "BU_VIN, CMU_CLK1#1", 37 PC6 (io) "ACMP0_CH6, LEU1_TX#0, I2C0_SDA#2, LES_CH6#0, ETM_TCLK#2", 38 PC7 (io) "ACMP0_CH7, LEU1_RX#0, I2C0_SCL#2, LES_CH7#0, ETM_TD0#2", 39 VDD_DREG (power) "Power supply for on-chip voltage regulator.", 40 DECOUPLE "Decouple output for on-chip voltage regulator. An external capacitance of size CDECOUPLE is required at this pin.", 41 PC8 (io) "ACMP1_CH0, TIM2_CC0#2, US0_CS#2, LES_CH8#0", 42 PC9 (io) "ACMP1_CH1, TIM2_CC1#2, US0_CLK#2, LES_CH9#0, GPIO_EM4WU2", 43 PC10 (io) "ACMP1_CH2, TIM2_CC2#2, US0_RX#2, LES_CH10#0", 44 PC11 (io) "ACMP1_CH3, US0_TX#2, LES_CH11#0", 45 PC12 (io) "DAC0_OUT1ALT#0/OPAMP_OUT1ALT, ACMP1_CH4, CMU_CLK0#1, LES_CH12#0", 46 PC13 (io) "DAC0_OUT1ALT#1/OPAMP_OUT1ALT, ACMP1_CH5, TIM0_CDTI0#1/3, TIM1_CC0#0, TIM1_CC2#4, PCNT0_S0IN#0, LES_CH13#0", 47 PC14 (io) "DAC0_OUT1ALT#2/OPAMP_OUT1ALT, ACMP1_CH6, TIM0_CDTI1#1/3, TIM1_CC1#0, PCNT0_S1IN#0, US0_CS#3, LES_CH14#0", 48 PC15 (io) "DAC0_OUT1ALT#3/OPAMP_OUT1ALT, ACMP1_CH7, TIM0_CDTI2#1/3, TIM1_CC2#0, US0_CLK#3, LES_CH15#0, DBG_SWO#1", 49 PF0 (io) "TIM0_CC0#5, LETIM0_OUT0#2, US1_CLK#2, LEU0_TX#3, I2C0_SDA#5, DBG_SWCLK#0/1/2/3", 50 PF1 (io) "TIM0_CC1#5, LETIM0_OUT1#2, US1_CS#2, LEU0_RX#3, I2C0_SCL#5, DBG_SWDIO#0/1/2/3, GPIO_EM4WU3", 51 PF2 (io) "TIM0_CC2#5, LEU0_TX#4, ACMP1_O#0, DBG_SWO#0, GPIO_EM4WU4", 52 PF3 (io) "TIM0_CDTI0#2/5, PRS_CH0#1, ETM_TD3#1", 53 PF4 (io) "TIM0_CDTI1#2/5, PRS_CH1#1", 54 PF5 (io) "TIM0_CDTI2#2/5, PRS_CH2#1", 55 IOVDD_5 (power) "Digital IO power supply 5.", 56 PE8 (io) "PCNT2_S0IN#1, PRS_CH3#1", 57 PE9 (io) "PCNT2_S1IN#1", 58 PE10 (io) "TIM1_CC0#1, US0_TX#0, BOOTLOADER_TX", 59 PE11 (io) "TIM1_CC1#1, US0_RX#0, LES_ALTEX5#0, BOOTLOADER_RX", 60 PE12 (io) "TIM1_CC2#1, US0_RX#3, US0_CLK#0, I2C0_SDA#6, CMU_CLK1#2, LES_ALTEX6#0", 61 PE13 (io) "US0_TX#3, US0_CS#0, I2C0_SCL#6, LES_ALTEX7#0, ACMP0_O#0, GPIO_EM4WU5", 62 PE14 (io) "TIM3_CC0#0, LEU0_TX#2", 63 PE15 (io) "TIM3_CC1#0, LEU0_RX#2", 64 PA15 (io) "TIM3_CC2#0"

## EFM32WG230F256-QFN64
designator U?
EFM32 Wonder Gecko, M4F ARM Cortex CPU, 256 KB Flash, 32 KB RAM, 1.85 - 3.8 V Supply, 48 MHz Max Speed, -40 to 85 degC, 64-Pin QFN, RoHS Compliant; Generic Part Number: EFM32WG230; PartNumber: EFM32WG230F256-QFN64; Flash (KB): 256; GPIO: 56; LESENSE: Y; Max Speed (MHz): 48; OPAMPS: 3; RAM (KB): 32; DatasheetVersion: Rev 1.00; PackageVersion: Rev. 98SPP64048A_XO1_08MAR2011; PackageReference: QFN64; PackageDescription: 64-Pin Quad Flat No-Lead, Body 9 x 9 mm, Pitch 0.5 mm; Supplier 1: Digi-Key; Supplier Part Number 1: 914-1084-2-ND; Supplier 2: Digi-Key; Supplier Part Number 2: 914-1084-1-ND; Supplier 3: Digi-Key; Supplier Part Number 3: 914-1084-6-ND; Supplier 4: Mouser; Supplier Part Number 4: 904-EFM32WG230F256; ARM Cortex CPU: M4F; Subcategory: EFM32 Wonder Gecko; Supply Voltage (V): 1.85 - 3.8; Mounting Technology: Surface Mount; ComponentLink1Description: Manufacturer URL; ComponentLink1URL: http://www.energymicro.com/; ComponentLink2Description: Datasheet; ComponentLink2URL: http://cdn.energymicro.com/dl/devices/pdf/d0185_efm32wg230_datasheet.pdf; ComponentLink3Description: Package Specification; ComponentLink3URL: http://cdn.energymicro.com/dl/devices/pdf/d0005_efm32g230_datasheet.pdf
footprint ENMR-QFN64_N (QFN, 64-Leads, Body 9x9mm, Pitch 0.5mm, IPC Medium Density)
footprint ENMR-QFN64_L (QFN, 64-Leads, Body 9x9mm, Pitch 0.5mm, IPC High Density)
footprint ENMR-QFN64_M (QFN, 64-Leads, Body 9x9mm, Pitch 0.5mm, IPC Low Density)
pins: 0 VSS (power) "Ground", 1 PA0 (io) "TIM0_CC0#0/1/4, LEU0_RX#4, I2C0_SDA#0, PRS_CH0#0, GPIO_EM4WU0", 2 PA1 (io) "TIM0_CC1#0/1, I2C0_SCL#0, CMU_CLK1#0, PRS_CH1#0", 3 PA2 (io) "TIM0_CC2#0/1, CMU_CLK0#0, ETM_TD0#3", 4 PA3 (io) "TIM0_CDTI0#0, LES_ALTEX2#0, ETM_TD1#3", 5 PA4 (io) "TIM0_CDTI1#0, LES_ALTEX3#0, ETM_TD2#3", 6 PA5 (io) "TIM0_CDTI2#0, LEU1_TX#1, LES_ALTEX4#0, ETM_TD3#3", 7 PA6 (io) "LEU1_RX#1, ETM_TCLK#3, GPIO_EM4WU1", 8 IOVDD_0 (power) "Digital IO power supply 0.", 9 PC0 (io) "DAC0_OUT0ALT#0/OPAMP_OUT0ALT, ACMP0_CH0, TIM0_CC1#4, PCNT0_S0IN#2, US0_TX#5, US1_TX#0, I2C0_SDA#4, LES_CH0#0, PRS_CH2#0", 10 PC1 (io) "DAC0_OUT0ALT#1/OPAMP_OUT0ALT, ACMP0_CH1, TIM0_CC2#4, PCNT0_S1IN#2, US0_RX#5, US1_RX#0, I2C0_SCL#4, LES_CH1#0, PRS_CH3#0", 11 PC2 (io) "DAC0_OUT0ALT#2/OPAMP_OUT0ALT, ACMP0_CH2, TIM0_CDTI0#4, US2_TX#0, LES_CH2#0", 12 PC3 (io) "DAC0_OUT0ALT#3/OPAMP_OUT0ALT, ACMP0_CH3, TIM0_CDTI1#4, US2_RX#0, LES_CH3#0", 13 PC4 (io) "DAC0_P0#0/OPAMP_P0, ACMP0_CH4, TIM0_CDTI2#4, LETIM0_OUT0#3, PCNT1_S0IN#0, US2_CLK#0, I2C1_SDA#0, LES_CH4#0", 14 PC5 (io) "DAC0_N0#0/OPAMP_N0, ACMP0_CH5, LETIM0_OUT1#3, PCNT1_S1IN#0, US2_CS#0, I2C1_SCL#0, LES_CH5#0", 15 PB7 (io) "LFXTAL_P, TIM1_CC0#3, US0_TX#4, US1_CLK#0", 16 PB8 (io) "LFXTAL_N, TIM1_CC1#3, US0_RX#4, US1_CS#0", 17 PA8 (io) "TIM2_CC0#0", 18 PA9 (io) "TIM2_CC1#0", 19 PA10 (io) "TIM2_CC2#0", 20 RESETn (in) "Reset input. Active low, with internal pull-up.", 21 PB11 (io) "DAC0_OUT0#0/OPAMP_OUT0, TIM1_CC2#3, LETIM0_OUT0#1, I2C1_SDA#1", 22 PB12 (io) "DAC0_OUT1#0/OPAMP_OUT1, LETIM0_OUT1#1, I2C1_SCL#1", 23 AVDD_1 (power) "Analog power supply 1.", 24 PB13 (io) "HFXTAL_P, US0_CLK#4/5, LEU0_TX#1", 25 PB14 (io) "HFXTAL_N, US0_CS#4/5, LEU0_RX#1", 26 IOVDD_3 (power) "Digital IO power supply 3.", 27 AVDD_0 (power) "Analog power supply 0.", 28 PD0 (io) "ADC0_CH0, DAC0_OUT0ALT#4/OPAMP_OUT0ALT, DAC0_OUT2#1/OPAMP_OUT2, PCNT2_S0IN#0, US1_TX#1", 29 PD1 (io) "ADC0_CH1, DAC0_OUT1ALT#4/OPAMP_OUT1ALT, TIM0_CC0#3, PCNT2_S1IN#0, US1_RX#1, DBG_SWO#2", 30 PD2 (io) "ADC0_CH2, TIM0_CC1#3, US1_CLK#1, DBG_SWO#3", 31 PD3 (io) "ADC0_CH3, DAC0_N2#0/OPAMP_N2, TIM0_CC2#3, US1_CS#1, ETM_TD1#0/2", 32 PD4 (io) "ADC0_CH4, DAC0_P2#0/OPAMP_P2, LEU0_TX#0, ETM_TD2#0/2", 33 PD5 (io) "ADC0_CH5, DAC0_OUT2#0/OPAMP_OUT2, LEU0_RX#0, ETM_TD3#0/2", 34 PD6 (io) "ADC0_CH6, DAC0_P1#0/OPAMP_P1, TIM1_CC0#4, LETIM0_OUT0#0, PCNT0_S0IN#3, US1_RX#2, I2C0_SDA#1, LES_ALTEX0#0, ACMP0_O#2, ETM_TD0#0", 35 PD7 (io) "ADC0_CH7, DAC0_N1#0/OPAMP_N1, TIM1_CC1#4, LETIM0_OUT1#0, PCNT0_S1IN#3, US1_TX#2, I2C0_SCL#1, CMU_CLK0#2, LES_ALTEX1#0, ACMP1_O#2, ETM_TCLK#0", 36 PD8 (io) "BU_VIN, CMU_CLK1#1", 37 PC6 (io) "ACMP0_CH6, LEU1_TX#0, I2C0_SDA#2, LES_CH6#0, ETM_TCLK#2", 38 PC7 (io) "ACMP0_CH7, LEU1_RX#0, I2C0_SCL#2, LES_CH7#0, ETM_TD0#2", 39 VDD_DREG (power) "Power supply for on-chip voltage regulator.", 40 DECOUPLE "Decouple output for on-chip voltage regulator. An external capacitance of size CDECOUPLE is required at this pin.", 41 PC8 (io) "ACMP1_CH0, TIM2_CC0#2, US0_CS#2, LES_CH8#0", 42 PC9 (io) "ACMP1_CH1, TIM2_CC1#2, US0_CLK#2, LES_CH9#0, GPIO_EM4WU2", 43 PC10 (io) "ACMP1_CH2, TIM2_CC2#2, US0_RX#2, LES_CH10#0", 44 PC11 (io) "ACMP1_CH3, US0_TX#2, LES_CH11#0", 45 PC12 (io) "DAC0_OUT1ALT#0/OPAMP_OUT1ALT, ACMP1_CH4, CMU_CLK0#1, LES_CH12#0", 46 PC13 (io) "DAC0_OUT1ALT#1/OPAMP_OUT1ALT, ACMP1_CH5, TIM0_CDTI0#1/3, TIM1_CC0#0, TIM1_CC2#4, PCNT0_S0IN#0, LES_CH13#0", 47 PC14 (io) "DAC0_OUT1ALT#2/OPAMP_OUT1ALT, ACMP1_CH6, TIM0_CDTI1#1/3, TIM1_CC1#0, PCNT0_S1IN#0, US0_CS#3, LES_CH14#0", 48 PC15 (io) "DAC0_OUT1ALT#3/OPAMP_OUT1ALT, ACMP1_CH7, TIM0_CDTI2#1/3, TIM1_CC2#0, US0_CLK#3, LES_CH15#0, DBG_SWO#1", 49 PF0 (io) "TIM0_CC0#5, LETIM0_OUT0#2, US1_CLK#2, LEU0_TX#3, I2C0_SDA#5, DBG_SWCLK#0/1/2/3", 50 PF1 (io) "TIM0_CC1#5, LETIM0_OUT1#2, US1_CS#2, LEU0_RX#3, I2C0_SCL#5, DBG_SWDIO#0/1/2/3, GPIO_EM4WU3", 51 PF2 (io) "TIM0_CC2#5, LEU0_TX#4, ACMP1_O#0, DBG_SWO#0, GPIO_EM4WU4", 52 PF3 (io) "TIM0_CDTI0#2/5, PRS_CH0#1, ETM_TD3#1", 53 PF4 (io) "TIM0_CDTI1#2/5, PRS_CH1#1", 54 PF5 (io) "TIM0_CDTI2#2/5, PRS_CH2#1", 55 IOVDD_5 (power) "Digital IO power supply 5.", 56 PE8 (io) "PCNT2_S0IN#1, PRS_CH3#1", 57 PE9 (io) "PCNT2_S1IN#1", 58 PE10 (io) "TIM1_CC0#1, US0_TX#0, BOOTLOADER_TX", 59 PE11 (io) "TIM1_CC1#1, US0_RX#0, LES_ALTEX5#0, BOOTLOADER_RX", 60 PE12 (io) "TIM1_CC2#1, US0_RX#3, US0_CLK#0, I2C0_SDA#6, CMU_CLK1#2, LES_ALTEX6#0", 61 PE13 (io) "US0_TX#3, US0_CS#0, I2C0_SCL#6, LES_ALTEX7#0, ACMP0_O#0, GPIO_EM4WU5", 62 PE14 (io) "TIM3_CC0#0, LEU0_TX#2", 63 PE15 (io) "TIM3_CC1#0, LEU0_RX#2", 64 PA15 (io) "TIM3_CC2#0"

## EFM32WG232F64-QFP64
designator U?
EFM32 Wonder Gecko, M4F ARM Cortex CPU, 64 KB Flash, 32 KB RAM, 1.85 - 3.8 V Supply, 48 MHz Max Speed, -40 to 85 degC, 64-Pin TQFP, RoHS Compliant; Generic Part Number: EFM32WG232; PartNumber: EFM32WG232F64-QFP64; Flash (KB): 64; GPIO: 53; LESENSE: Y; Max Speed (MHz): 48; OPAMPS: 3; RAM (KB): 32; DatasheetVersion: Rev 1.00; PackageVersion: Rev. 98SPP64023A_XO1_17MAR2011; PackageReference: TQFP64; PackageDescription: 64-Pin Quad Flat Package, Body 10 x 10 mm, Pitch 0.5 mm; Supplier 1: Digi-Key; Supplier Part Number 1: EFM32WG232F64-ND; Supplier 2: Mouser; Supplier Part Number 2: 904-EFM32WG232F64; ARM Cortex CPU: M4F; Subcategory: EFM32 Wonder Gecko; Supply Voltage (V): 1.85 - 3.8; Mounting Technology: Surface Mount; ComponentLink1Description: Manufacturer URL; ComponentLink1URL: http://www.energymicro.com/; ComponentLink2Description: Datasheet; ComponentLink2URL: http://cdn.energymicro.com/dl/devices/pdf/d0186_efm32wg232_datasheet.pdf; ComponentLink3Description: Package Specification; ComponentLink3URL: http://cdn.energymicro.com/dl/devices/pdf/d0070_efm32g842_datasheet.pdf
footprint ENMR-TQFP64_N (QFP, 64-Leads, Body 10x10mm, Pitch 0.5mm, IPC Medium Density)
footprint ENMR-TQFP64_L (QFP, 64-Leads, Body 10x10mm, Pitch 0.5mm, IPC High Density)
footprint ENMR-TQFP64_M (QFP, 64-Leads, Body 10x10mm, Pitch 0.5mm, IPC Low Density)
pins: 1 PA0 (io) "TIM0_CC0#0/1/4, LEU0_RX#4, I2C0_SDA#0, PRS_CH0#0, GPIO_EM4WU0", 2 PA1 (io) "TIM0_CC1#0/1, I2C0_SCL#0, CMU_CLK1#0, PRS_CH1#0", 3 PA2 (io) "TIM0_CC2#0/1, CMU_CLK0#0, ETM_TD0#3", 4 PA3 (io) "TIM0_CDTI0#0, LES_ALTEX2#0, ETM_TD1#3", 5 PA4 (io) "TIM0_CDTI1#0, LES_ALTEX3#0, ETM_TD2#3", 6 PA5 (io) "TIM0_CDTI2#0, LEU1_TX#1, LES_ALTEX4#0, ETM_TD3#3", 7 IOVDD_0 (power) "Digital IO power supply 0.", 8 VSS (power) "Ground", 9 PC0 (io) "DAC0_OUT0ALT#0/OPAMP_OUT0ALT, ACMP0_CH0, TIM0_CC1#4, PCNT0_S0IN#2, US0_TX#5, US1_TX#0, I2C0_SDA#4, LES_CH0#0, PRS_CH2#0", 10 PC1 (io) "DAC0_OUT0ALT#1/OPAMP_OUT0ALT, ACMP0_CH1, TIM0_CC2#4, PCNT0_S1IN#2, US0_RX#5, US1_RX#0, I2C0_SCL#4, LES_CH1#0, PRS_CH3#0", 11 PC2 (io) "DAC0_OUT0ALT#2/OPAMP_OUT0ALT, ACMP0_CH2, TIM0_CDTI0#4, US2_TX#0, LES_CH2#0", 12 PC3 (io) "DAC0_OUT0ALT#3/OPAMP_OUT0ALT, ACMP0_CH3, TIM0_CDTI1#4, US2_RX#0, LES_CH3#0", 13 PC4 (io) "DAC0_P0#0/OPAMP_P0, ACMP0_CH4, TIM0_CDTI2#4, LETIM0_OUT0#3, PCNT1_S0IN#0, US2_CLK#0, I2C1_SDA#0, LES_CH4#0", 14 PC5 (io) "DAC0_N0#0/OPAMP_N0, ACMP0_CH5, LETIM0_OUT1#3, PCNT1_S1IN#0, US2_CS#0, I2C1_SCL#0, LES_CH5#0", 15 PB7 (io) "LFXTAL_P, TIM1_CC0#3, US0_TX#4, US1_CLK#0", 16 PB8 (io) "LFXTAL_N, TIM1_CC1#3, US0_RX#4, US1_CS#0", 17 PA8 (io) "TIM2_CC0#0", 18 PA9 (io) "TIM2_CC1#0", 19 PA10 (io) "TIM2_CC2#0", 20 RESETn (in) "Reset input. Active low, with internal pull-up.", 21 PB11 (io) "DAC0_OUT0#0/OPAMP_OUT0, TIM1_CC2#3, LETIM0_OUT0#1, I2C1_SDA#1", 22 VSS (power) "Ground", 23 AVDD_1 (power) "Analog power supply 1 .", 24 PB13 (io) "HFXTAL_P, US0_CLK#4/5, LEU0_TX#1", 25 PB14 (io) "HFXTAL_N, US0_CS#4/5, LEU0_RX#1", 26 IOVDD_3 (power) "Digital IO power supply 3.", 27 AVDD_0 (power) "Analog power supply 0.", 28 PD0 (io) "ADC0_CH0, DAC0_OUT0ALT#4/OPAMP_OUT0ALT, DAC0_OUT2#1/OPAMP_OUT2, PCNT2_S0IN#0, US1_TX#1", 29 PD1 (io) "ADC0_CH1, DAC0_OUT1ALT#4/OPAMP_OUT1ALT, TIM0_CC0#3, PCNT2_S1IN#0, US1_RX#1, DBG_SWO#2", 30 PD2 (io) "ADC0_CH2, TIM0_CC1#3, US1_CLK#1, DBG_SWO#3", 31 PD3 (io) "ADC0_CH3, DAC0_N2#0/OPAMP_N2, TIM0_CC2#3, US1_CS#1, ETM_TD1#0/2", 32 PD4 (io) "ADC0_CH4, DAC0_P2#0/OPAMP_P2, LEU0_TX#0, ETM_TD2#0/2", 33 PD5 (io) "ADC0_CH5, DAC0_OUT2#0/OPAMP_OUT2, LEU0_RX#0, ETM_TD3#0/2", 34 PD6 (io) "ADC0_CH6, DAC0_P1#0/OPAMP_P1, TIM1_CC0#4, LETIM0_OUT0#0, PCNT0_S0IN#3, US1_RX#2, I2C0_SDA#1, LES_ALTEX0#0, ACMP0_O#2, ETM_TD0#0", 35 PD7 (io) "ADC0_CH7, DAC0_N1#0/OPAMP_N1, TIM1_CC1#4, LETIM0_OUT1#0, PCNT0_S1IN#3, US1_TX#2, I2C0_SCL#1, CMU_CLK0#2, LES_ALTEX1#0, ACMP1_O#2, ETM_TCLK#0", 36 PD8 (io) "BU_VIN, CMU_CLK1#1", 37 PC6 (io) "ACMP0_CH6, LEU1_TX#0, I2C0_SDA#2, LES_CH6#0, ETM_TCLK#2", 38 PC7 (io) "ACMP0_CH7, LEU1_RX#0, I2C0_SCL#2, LES_CH7#0, ETM_TD0#2", 39 VDD_DREG (power) "Power supply for on-chip voltage regulator", 40 DECOUPLE "Decouple output for on-chip voltage regulator. An external capacitance of size CDECOUPLE is required at this pin", 41 PC8 (io) "ACMP1_CH0, TIM2_CC0#2, US0_CS#2, LES_CH8#0", 42 PC9 (io) "ACMP1_CH1, TIM2_CC1#2, US0_CLK#2, LES_CH9#0, GPIO_EM4WU2", 43 PC10 (io) "ACMP1_CH2, TIM2_CC2#2, US0_RX#2, LES_CH10#0", 44 PC11 (io) "ACMP1_CH3, US0_TX#2, LES_CH11#0", 45 PC12 (io) "DAC0_OUT1ALT#0/OPAMP_OUT1ALT, ACMP1_CH4, CMU_CLK0#1, LES_CH12#0", 46 PC13 (io) "DAC0_OUT1ALT#1/OPAMP_OUT1ALT, ACMP1_CH5, TIM0_CDTI0#1/3, TIM1_CC0#0, TIM1_CC2#4, PCNT0_S0IN#0, LES_CH13#0", 47 PC14 (io) "DAC0_OUT1ALT#2/OPAMP_OUT1ALT, ACMP1_CH6, TIM0_CDTI1#1/3, TIM1_CC1#0, PCNT0_S1IN#0, US0_CS#3, LES_CH14#0", 48 PC15 (io) "DAC0_OUT1ALT#3/OPAMP_OUT1ALT, ACMP1_CH7, TIM0_CDTI2#1/3, TIM1_CC2#0, US0_CLK#3, LES_CH15#0, DBG_SWO#1", 49 PF0 (io) "TIM0_CC0#5, LETIM0_OUT0#2, US1_CLK#2, LEU0_TX#3, I2C0_SDA#5, DBG_SWCLK#0/1/2/3", 50 PF1 (io) "TIM0_CC1#5, LETIM0_OUT1#2, US1_CS#2, LEU0_RX#3, I2C0_SCL#5, DBG_SWDIO#0/1/2/3, GPIO_EM4WU3", 51 PF2 (io) "TIM0_CC2#5, LEU0_TX#4, ACMP1_O#0, DBG_SWO#0, GPIO_EM4WU4", 52 PF3 (io) "TIM0_CDTI0#2/5, PRS_CH0#1, ETM_TD3#1", 53 PF4 (io) "TIM0_CDTI1#2/5, PRS_CH1#1", 54 PF5 (io) "TIM0_CDTI2#2/5, PRS_CH2#1", 55 IOVDD_5 (power) "Digital IO power supply 5.", 56 VSS (power) "Ground", 57 PE8 (io) "PCNT2_S0IN#1, PRS_CH3#1", 58 PE9 (io) "PCNT2_S1IN#1", 59 PE10 (io) "TIM1_CC0#1, US0_TX#0, BOOTLOADER_TX", 60 PE11 (io) "TIM1_CC1#1, US0_RX#0, LES_ALTEX5#0, BOOTLOADER_RX", 61 PE12 (io) "TIM1_CC2#1, US0_RX#3, US0_CLK#0, I2C0_SDA#6, CMU_CLK1#2, LES_ALTEX6#0", 62 PE13 (io) "US0_TX#3, US0_CS#0, I2C0_SCL#6, LES_ALTEX7#0, ACMP0_O#0, GPIO_EM4WU5", 63 PE14 (io) "TIM3_CC0#0, LEU0_TX#2", 64 PE15 (io) "TIM3_CC1#0, LEU0_RX#2"

## EFM32WG232F128-QFP64
designator U?
EFM32 Wonder Gecko, M4F ARM Cortex CPU, 128 KB Flash, 32 KB RAM, 1.85 - 3.8 V Supply, 48 MHz Max Speed, -40 to 85 degC, 64-Pin TQFP, RoHS Compliant; Generic Part Number: EFM32WG232; PartNumber: EFM32WG232F128-QFP64; Flash (KB): 128; GPIO: 53; LESENSE: Y; Max Speed (MHz): 48; OPAMPS: 3; RAM (KB): 32; DatasheetVersion: Rev 1.00; PackageVersion: Rev. 98SPP64023A_XO1_17MAR2011; PackageReference: TQFP64; PackageDescription: 64-Pin Quad Flat Package, Body 10 x 10 mm, Pitch 0.5 mm; Supplier 1: Digi-Key; Supplier Part Number 1: EFM32WG232F128-ND; Supplier 2: Mouser; Supplier Part Number 2: 904-EFM32WG232F128; ARM Cortex CPU: M4F; Subcategory: EFM32 Wonder Gecko; Supply Voltage (V): 1.85 - 3.8; Mounting Technology: Surface Mount; ComponentLink1Description: Manufacturer URL; ComponentLink1URL: http://www.energymicro.com/; ComponentLink2Description: Datasheet; ComponentLink2URL: http://cdn.energymicro.com/dl/devices/pdf/d0186_efm32wg232_datasheet.pdf; ComponentLink3Description: Package Specification; ComponentLink3URL: http://cdn.energymicro.com/dl/devices/pdf/d0070_efm32g842_datasheet.pdf
footprint ENMR-TQFP64_N (QFP, 64-Leads, Body 10x10mm, Pitch 0.5mm, IPC Medium Density)
footprint ENMR-TQFP64_L (QFP, 64-Leads, Body 10x10mm, Pitch 0.5mm, IPC High Density)
footprint ENMR-TQFP64_M (QFP, 64-Leads, Body 10x10mm, Pitch 0.5mm, IPC Low Density)
pins: 1 PA0 (io) "TIM0_CC0#0/1/4, LEU0_RX#4, I2C0_SDA#0, PRS_CH0#0, GPIO_EM4WU0", 2 PA1 (io) "TIM0_CC1#0/1, I2C0_SCL#0, CMU_CLK1#0, PRS_CH1#0", 3 PA2 (io) "TIM0_CC2#0/1, CMU_CLK0#0, ETM_TD0#3", 4 PA3 (io) "TIM0_CDTI0#0, LES_ALTEX2#0, ETM_TD1#3", 5 PA4 (io) "TIM0_CDTI1#0, LES_ALTEX3#0, ETM_TD2#3", 6 PA5 (io) "TIM0_CDTI2#0, LEU1_TX#1, LES_ALTEX4#0, ETM_TD3#3", 7 IOVDD_0 (power) "Digital IO power supply 0.", 8 VSS (power) "Ground", 9 PC0 (io) "DAC0_OUT0ALT#0/OPAMP_OUT0ALT, ACMP0_CH0, TIM0_CC1#4, PCNT0_S0IN#2, US0_TX#5, US1_TX#0, I2C0_SDA#4, LES_CH0#0, PRS_CH2#0", 10 PC1 (io) "DAC0_OUT0ALT#1/OPAMP_OUT0ALT, ACMP0_CH1, TIM0_CC2#4, PCNT0_S1IN#2, US0_RX#5, US1_RX#0, I2C0_SCL#4, LES_CH1#0, PRS_CH3#0", 11 PC2 (io) "DAC0_OUT0ALT#2/OPAMP_OUT0ALT, ACMP0_CH2, TIM0_CDTI0#4, US2_TX#0, LES_CH2#0", 12 PC3 (io) "DAC0_OUT0ALT#3/OPAMP_OUT0ALT, ACMP0_CH3, TIM0_CDTI1#4, US2_RX#0, LES_CH3#0", 13 PC4 (io) "DAC0_P0#0/OPAMP_P0, ACMP0_CH4, TIM0_CDTI2#4, LETIM0_OUT0#3, PCNT1_S0IN#0, US2_CLK#0, I2C1_SDA#0, LES_CH4#0", 14 PC5 (io) "DAC0_N0#0/OPAMP_N0, ACMP0_CH5, LETIM0_OUT1#3, PCNT1_S1IN#0, US2_CS#0, I2C1_SCL#0, LES_CH5#0", 15 PB7 (io) "LFXTAL_P, TIM1_CC0#3, US0_TX#4, US1_CLK#0", 16 PB8 (io) "LFXTAL_N, TIM1_CC1#3, US0_RX#4, US1_CS#0", 17 PA8 (io) "TIM2_CC0#0", 18 PA9 (io) "TIM2_CC1#0", 19 PA10 (io) "TIM2_CC2#0", 20 RESETn (in) "Reset input. Active low, with internal pull-up.", 21 PB11 (io) "DAC0_OUT0#0/OPAMP_OUT0, TIM1_CC2#3, LETIM0_OUT0#1, I2C1_SDA#1", 22 VSS (power) "Ground", 23 AVDD_1 (power) "Analog power supply 1 .", 24 PB13 (io) "HFXTAL_P, US0_CLK#4/5, LEU0_TX#1", 25 PB14 (io) "HFXTAL_N, US0_CS#4/5, LEU0_RX#1", 26 IOVDD_3 (power) "Digital IO power supply 3.", 27 AVDD_0 (power) "Analog power supply 0.", 28 PD0 (io) "ADC0_CH0, DAC0_OUT0ALT#4/OPAMP_OUT0ALT, DAC0_OUT2#1/OPAMP_OUT2, PCNT2_S0IN#0, US1_TX#1", 29 PD1 (io) "ADC0_CH1, DAC0_OUT1ALT#4/OPAMP_OUT1ALT, TIM0_CC0#3, PCNT2_S1IN#0, US1_RX#1, DBG_SWO#2", 30 PD2 (io) "ADC0_CH2, TIM0_CC1#3, US1_CLK#1, DBG_SWO#3", 31 PD3 (io) "ADC0_CH3, DAC0_N2#0/OPAMP_N2, TIM0_CC2#3, US1_CS#1, ETM_TD1#0/2", 32 PD4 (io) "ADC0_CH4, DAC0_P2#0/OPAMP_P2, LEU0_TX#0, ETM_TD2#0/2", 33 PD5 (io) "ADC0_CH5, DAC0_OUT2#0/OPAMP_OUT2, LEU0_RX#0, ETM_TD3#0/2", 34 PD6 (io) "ADC0_CH6, DAC0_P1#0/OPAMP_P1, TIM1_CC0#4, LETIM0_OUT0#0, PCNT0_S0IN#3, US1_RX#2, I2C0_SDA#1, LES_ALTEX0#0, ACMP0_O#2, ETM_TD0#0", 35 PD7 (io) "ADC0_CH7, DAC0_N1#0/OPAMP_N1, TIM1_CC1#4, LETIM0_OUT1#0, PCNT0_S1IN#3, US1_TX#2, I2C0_SCL#1, CMU_CLK0#2, LES_ALTEX1#0, ACMP1_O#2, ETM_TCLK#0", 36 PD8 (io) "BU_VIN, CMU_CLK1#1", 37 PC6 (io) "ACMP0_CH6, LEU1_TX#0, I2C0_SDA#2, LES_CH6#0, ETM_TCLK#2", 38 PC7 (io) "ACMP0_CH7, LEU1_RX#0, I2C0_SCL#2, LES_CH7#0, ETM_TD0#2", 39 VDD_DREG (power) "Power supply for on-chip voltage regulator", 40 DECOUPLE "Decouple output for on-chip voltage regulator. An external capacitance of size CDECOUPLE is required at this pin", 41 PC8 (io) "ACMP1_CH0, TIM2_CC0#2, US0_CS#2, LES_CH8#0", 42 PC9 (io) "ACMP1_CH1, TIM2_CC1#2, US0_CLK#2, LES_CH9#0, GPIO_EM4WU2", 43 PC10 (io) "ACMP1_CH2, TIM2_CC2#2, US0_RX#2, LES_CH10#0", 44 PC11 (io) "ACMP1_CH3, US0_TX#2, LES_CH11#0", 45 PC12 (io) "DAC0_OUT1ALT#0/OPAMP_OUT1ALT, ACMP1_CH4, CMU_CLK0#1, LES_CH12#0", 46 PC13 (io) "DAC0_OUT1ALT#1/OPAMP_OUT1ALT, ACMP1_CH5, TIM0_CDTI0#1/3, TIM1_CC0#0, TIM1_CC2#4, PCNT0_S0IN#0, LES_CH13#0", 47 PC14 (io) "DAC0_OUT1ALT#2/OPAMP_OUT1ALT, ACMP1_CH6, TIM0_CDTI1#1/3, TIM1_CC1#0, PCNT0_S1IN#0, US0_CS#3, LES_CH14#0", 48 PC15 (io) "DAC0_OUT1ALT#3/OPAMP_OUT1ALT, ACMP1_CH7, TIM0_CDTI2#1/3, TIM1_CC2#0, US0_CLK#3, LES_CH15#0, DBG_SWO#1", 49 PF0 (io) "TIM0_CC0#5, LETIM0_OUT0#2, US1_CLK#2, LEU0_TX#3, I2C0_SDA#5, DBG_SWCLK#0/1/2/3", 50 PF1 (io) "TIM0_CC1#5, LETIM0_OUT1#2, US1_CS#2, LEU0_RX#3, I2C0_SCL#5, DBG_SWDIO#0/1/2/3, GPIO_EM4WU3", 51 PF2 (io) "TIM0_CC2#5, LEU0_TX#4, ACMP1_O#0, DBG_SWO#0, GPIO_EM4WU4", 52 PF3 (io) "TIM0_CDTI0#2/5, PRS_CH0#1, ETM_TD3#1", 53 PF4 (io) "TIM0_CDTI1#2/5, PRS_CH1#1", 54 PF5 (io) "TIM0_CDTI2#2/5, PRS_CH2#1", 55 IOVDD_5 (power) "Digital IO power supply 5.", 56 VSS (power) "Ground", 57 PE8 (io) "PCNT2_S0IN#1, PRS_CH3#1", 58 PE9 (io) "PCNT2_S1IN#1", 59 PE10 (io) "TIM1_CC0#1, US0_TX#0, BOOTLOADER_TX", 60 PE11 (io) "TIM1_CC1#1, US0_RX#0, LES_ALTEX5#0, BOOTLOADER_RX", 61 PE12 (io) "TIM1_CC2#1, US0_RX#3, US0_CLK#0, I2C0_SDA#6, CMU_CLK1#2, LES_ALTEX6#0", 62 PE13 (io) "US0_TX#3, US0_CS#0, I2C0_SCL#6, LES_ALTEX7#0, ACMP0_O#0, GPIO_EM4WU5", 63 PE14 (io) "TIM3_CC0#0, LEU0_TX#2", 64 PE15 (io) "TIM3_CC1#0, LEU0_RX#2"